# EAGLE library part PSOC4_USB-SERIAL_BRIDGE (library mylib2)
Cypress USB-Serial Bridge
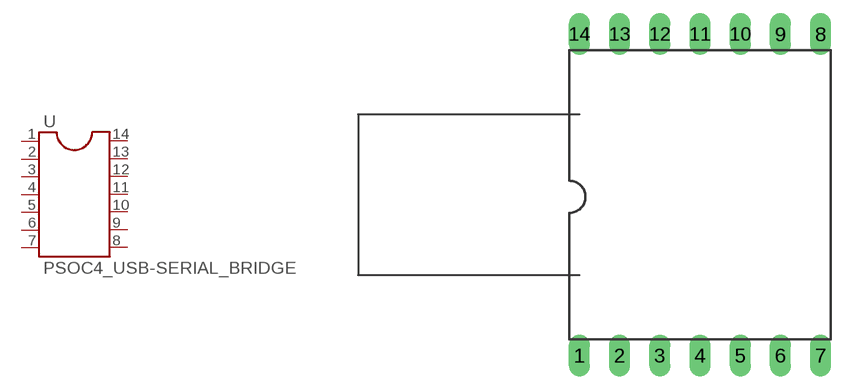
[diagram p8: symbol with the pads of DIL14-8; footprint DIL14-8]

Designator prefix -

## PSOC4_USB-SERIAL_BRIDGE  [DIL14-8]
1  1  pas
2  2  pas
3  3  pas
4  4  pas
5  5  pas
6  6  pas
7  7  pas
8  8  pas
9  9  pas
10  10  pas
11  11  pas
12  12  pas
13  13  pas
14  14  pas

## Footprint DIL14-8 (pad centres in mm)
drill 0.813 long: 1 -7.62,-10.16; 2 -5.08,-10.16; 3 -2.54,-10.16; 4 0,-10.16; 5 2.54,-10.16; 6 5.08,-10.16; 7 7.62,-10.16; 8 7.62,10.16; 9 5.08,10.16; 10 2.54,10.16; 11 0,10.16; 12 -2.54,10.16; 13 -5.08,10.16; 14 -7.62,10.16